# EAGLE library part AD5683R (library SKAARHOJ)
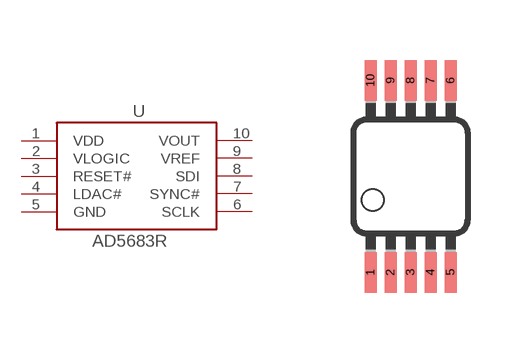
[diagram p52: symbol with the pads of MSOP10; footprint MSOP10]

Designator prefix -

## AD5683R  [MSOP10]
1  VDD  pwr
2  VLOGIC  pwr
3  RESET#  in
4  LDAC#  in
5  GND  pwr
6  SCLK  in
7  SYNC#  in
8  SDI  in
9  VREF
10  VOUT  out

## Footprint MSOP10 (pad centres in mm)
10 Lead MSOP Package NS Package Number MUB10A Source: http://cache.national.com/ds/LM/LM5030.pdf
smd 0.3 x 1.02: 1 -1,-2.4; 2 -0.5,-2.4; 3 0,-2.4; 4 0.5,-2.4; 5 1,-2.4; 6 1,2.4; 7 0.5,2.4; 8 0,2.4; 9 -0.5,2.4; 10 -1,2.4